# Altium footprint library WE-HEPA.PcbLib: 2 footprints
Each footprint in its own frame and in the unit in brackets; x right, y up, seen from the top. Pads: shape width x height; smd on the part's side, far side on the other; paste and mask are expansions set on the pad; w line width, h text height; cw(c..) or ccw(c..) is an arc to the next point about the centre after c.
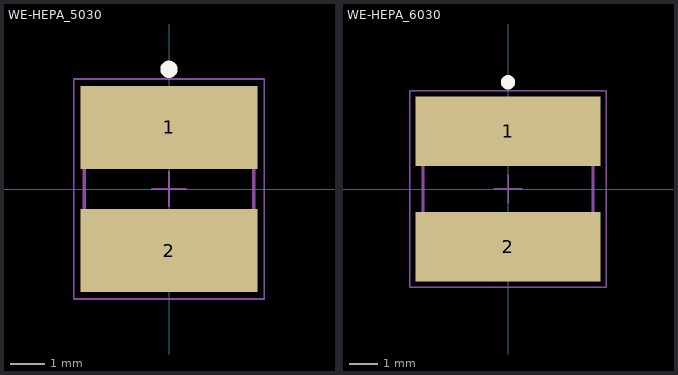
[diagram p0: the footprints below, top view; thin cyan lines are the x and y axes]

## WE-HEPA_5030 [mm] "SMT Power Inductor, 2-leads, body 4.90 x 4.90mm"
height 2.85
pads (2):
  rect 5.1x2.4 smd: 1(0,1.775) 2(0,-1.775)
Top Overlay:
  circle w0.25: c0,3.45 r0.125
Top Designator:
  text ".Designator" at -5.998,-0.4 h1.2
Top Component Outline:
  circle w0.1: c-1.65,1.65 r0.4
  lines w0.1: -2.45,-2.45 2.45,-2.45 2.45,2.45 -2.45,2.45 -2.45,-2.45
Top Courtyard:
  lines w0.05: -2.75,-3.175 2.75,-3.175 2.75,3.175 -2.75,3.175 -2.75,-3.175
Top Component Center:
  lines w0.05: -0.5,0 0.5,0 ; 0,-0.5 0,0.5
3D body "74408053xxx.stp": height 2.85, standoff 0, extent -2.45,-2.45 2.45,2.45

## WE-HEPA_6030 [mm] "SMT Power Inductor, 2-leads, body 5.90 x 5.90mm"
height 2.85
pads (2):
  rect 6.4x2.4 smd: 1(0,2) 2(0,-2)
Top Overlay:
  circle w0.25: c0,3.7 r0.125
Top Designator:
  text ".Designator" at -7.498,-0.5 h1.5
Top Component Outline:
  circle w0.1: c-2.15,2.15 r0.4
  lines w0.1: -2.95,-2.95 -2.95,2.95 2.95,2.95 2.95,-2.95 -2.95,-2.95
Top Courtyard:
  lines w0.05: -3.4,-3.4 -3.4,3.4 3.4,3.4 3.4,-3.4 -3.4,-3.4
Top Component Center:
  lines w0.05: -0.5,0 0.5,0 ; 0,-0.5 0,0.5
3D body "74408063xxx.stp": height 2.85, standoff 0, extent -2.95,-2.95 2.95,2.95